# Altium schematic symbol library STM32F103RCT6核心板--接口原理图库.SCHLIB: 1 symbol
Pins are listed as number, name and electrical type; pins without a type are passive.

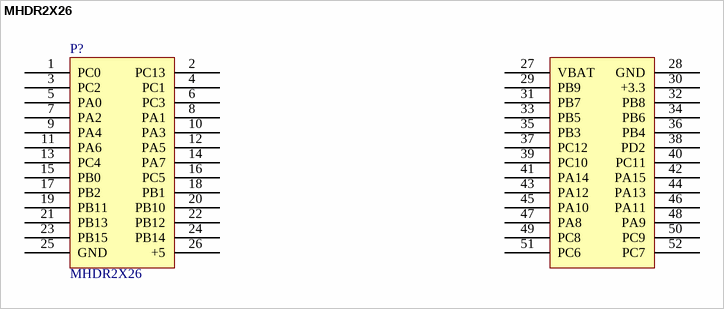
[diagram p0: symbol MHDR2X26]

## MHDR2X26
designator P?
Header, 52-Pin, Dual row; LatestRevisionDate: 17-Jul-2002; LatestRevisionNote: Re-released for DXP Platform.; Publisher: Altium Limited
signal-integrity model Connector
footprint PCBComponent_1
pins: 1 PC0, 2 PC13, 3 PC2, 4 PC1, 5 PA0, 6 PC3, 7 PA2, 8 PA1, 9 PA4, 10 PA3, 11 PA6, 12 PA5, 13 PC4, 14 PA7, 15 PB0, 16 PC5, 17 PB2, 18 PB1, 19 PB11, 20 PB10, 21 PB13, 22 PB12, 23 PB15, 24 PB14, 25 GND, 26 +5, 27 VBAT, 28 GND, 29 PB9, 30 +3.3, 31 PB7, 32 PB8, 33 PB5, 34 PB6, 35 PB3, 36 PB4, 37 PC12, 38 PD2, 39 PC10, 40 PC11, 41 PA14, 42 PA15, 43 PA12, 44 PA13, 45 PA10, 46 PA11, 47 PA8, 48 PA9, 49 PC8, 50 PC9, 51 PC6, 52 PC7